# Altium schematic symbol library LAB03.SchLib: 3 symbols
Pins are listed as number, name and electrical type; pins without a type are passive.

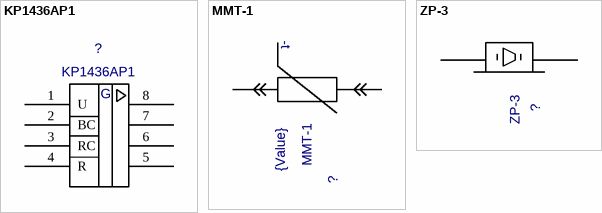
[diagram p0: symbols KP1436AP1 to ZP-3]

## KP1436AP1
designator ?
Value: *
footprint КР1436АП1
pins: 1 U, 2 BC, 3 RC, 4 R, 5, 6, 7, 8
text: G

## MMT-1
designator ?  value {Value}
footprint MMT-1
pins: 1, 2
text: -t

## ZP-3
designator ?
Value: *
footprint ЗП-3
pins: 1, 2